# Altium schematic symbol library Gavin.SchLib: 5 symbols
Pins are listed as number, name and electrical type; pins without a type are passive.

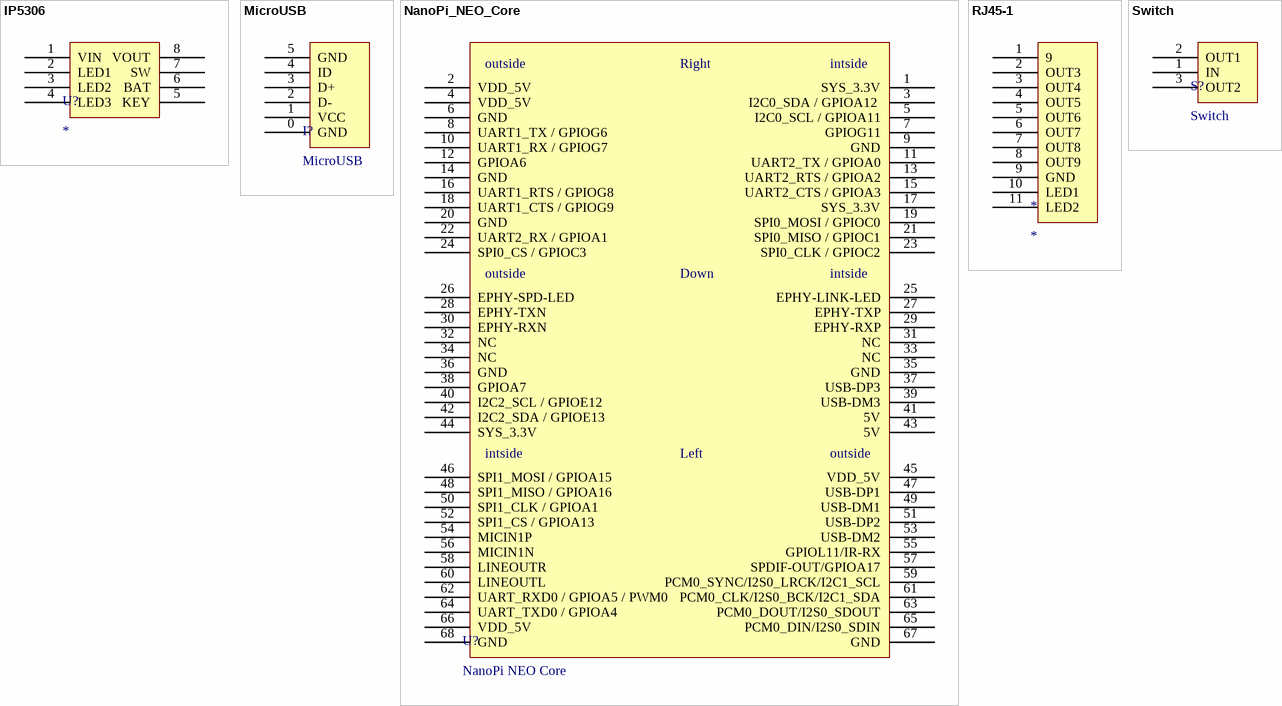
[diagram p0: symbols IP5306 to Switch]

## IP5306
designator U?
footprint SOP8
pins: 1 VIN, 2 LED1, 3 LED2, 4 LED3, 5 KEY, 6 BAT, 7 SW, 8 VOUT

## MicroUSB
designator I?
footprint MicroUSB
pins: 0 GND, 1 VCC, 2 D-, 3 D+, 4 ID, 5 GND

## NanoPi_NEO_Core
designator U?, comment NanoPi NEO Core
footprint NanoPi_NEO_Core
pins: 1 SYS_3.3V, 2 VDD_5V, 3 I2C0_SDA / GPIOA12 , 4 VDD_5V, 5 I2C0_SCL / GPIOA11, 6 GND, 7 GPIOG11, 8 UART1_TX / GPIOG6, 9 GND, 10 UART1_RX / GPIOG7, 11 UART2_TX / GPIOA0, 12 GPIOA6, 13 UART2_RTS / GPIOA2, 14 GND, 15 UART2_CTS / GPIOA3, 16 UART1_RTS / GPIOG8, 17 SYS_3.3V, 18 UART1_CTS / GPIOG9, 19 SPI0_MOSI / GPIOC0, 20 GND, 21 SPI0_MISO / GPIOC1, 22 UART2_RX / GPIOA1, 23 SPI0_CLK / GPIOC2, 24 SPI0_CS / GPIOC3, 25 EPHY-LINK-LED, 26 EPHY-SPD-LED, 27 EPHY-TXP, 28 EPHY-TXN, 29 EPHY-RXP, 30 EPHY-RXN, 31 NC, 32 NC, 33 NC, 34 NC, 35 GND, 36 GND, 37 USB-DP3, 38 GPIOA7, 39 USB-DM3, 40 I2C2_SCL / GPIOE12, 41 5V, 42 I2C2_SDA / GPIOE13, 43 5V, 44 SYS_3.3V, 45 VDD_5V, 46 SPI1_MOSI / GPIOA15, 47 USB-DP1, 48 SPI1_MISO / GPIOA16, 49 USB-DM1, 50 SPI1_CLK / GPIOA1, 51 USB-DP2, 52 SPI1_CS / GPIOA13, 53  USB-DM2, 54 MICIN1P, 55 GPIOL11/IR-RX, 56 MICIN1N, 57 SPDIF-OUT/GPIOA17, 58 LINEOUTR, 59 PCM0_SYNC/I2S0_LRCK/I2C1_SCL, 60 LINEOUTL, 61 PCM0_CLK/I2S0_BCK/I2C1_SDA, 62 UART_RXD0 / GPIOA5 / PWM0, 63 PCM0_DOUT/I2S0_SDOUT, 64 UART_TXD0 / GPIOA4, 65 PCM0_DIN/I2S0_SDIN, 66 VDD_5V, 67 GND, 68 GND
text: outside; Right; intside; Down; Left

## RJ45-1
designator *
pins: 1 9, 2 OUT3, 3 OUT4, 4 OUT5, 5 OUT6, 6 OUT7, 7 OUT8, 8 OUT9, 9 GND, 10 LED1, 11 LED2

## Switch
designator S?
footprint SwitchA
pins: 1 IN, 2 OUT1, 3 OUT2